# Altium footprint library TRIM_3296P-1-105.PcbLib: 1 footprints
Each footprint in its own frame and in the unit in brackets; x right, y up, seen from the top. Pads: shape width x height; smd on the part's side, far side on the other; paste and mask are expansions set on the pad; w line width, h text height; cw(c..) or ccw(c..) is an arc to the next point about the centre after c.
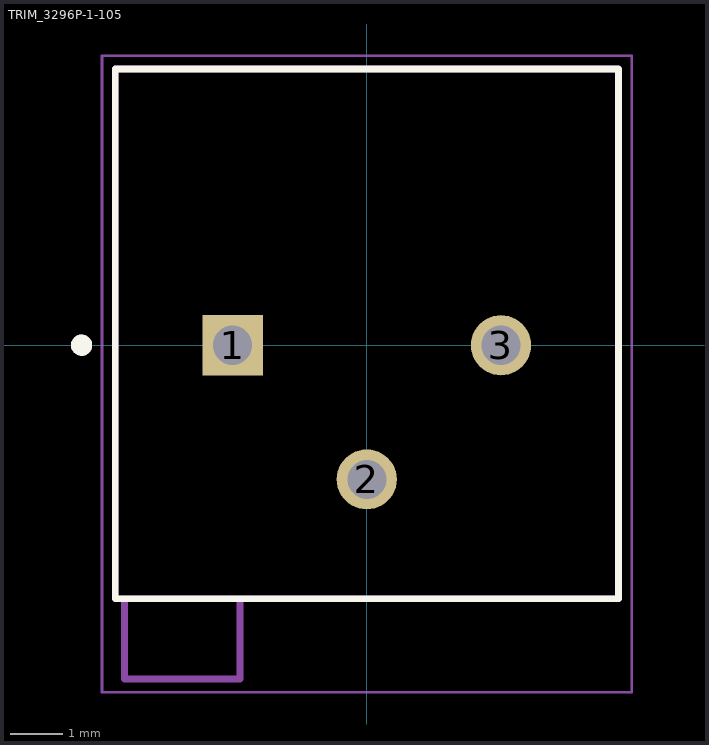
[diagram p0: the footprint, top view; thin cyan lines are the x and y axes]

## TRIM_3296P-1-105 [mm]
height 4.96
pads (3):
  rect 1.14x1.14 / inner round 1.14 / far side rect 1.14x1.14 hole 0.74: 1(-2.54,0)
  round 1.14 hole 0.74: 2(0,-2.54) 3(2.54,0)
Top Overlay:
  circle w0.2: c-5.4,0 r0.1
  lines w0.127: -4.765,-4.8 -4.765,5.23 4.765,5.23 4.765,-4.8 -4.765,-4.8
Mechanical 13:
  circle w0.2: c-5.4,0 r0.1
  lines w0.127: -4.59,-4.8 -2.4,-4.8 ; -4.59,-4.8 -4.765,-4.8 -4.765,5.23 4.765,5.23 4.765,-4.8 -2.4,-4.8 ; -4.59,-4.8 -4.59,-6.32 -2.4,-6.32 -2.4,-4.8
Mechanical 15:
  lines w0.05: -5.015,-6.57 -5.015,5.48 5.015,5.48 5.015,-6.57 -5.015,-6.57
3D body "step_temp.STEP": height 4.96, standoff -7.72, extent -4.765,-6.32 4.765,5.23